# EAGLE library part S16B-PUDSS-1 (library con-jst-pud)
JST connector, PUD series, 2.0mm spacing, crimp style, wire-to-board, 16 pin, side entry
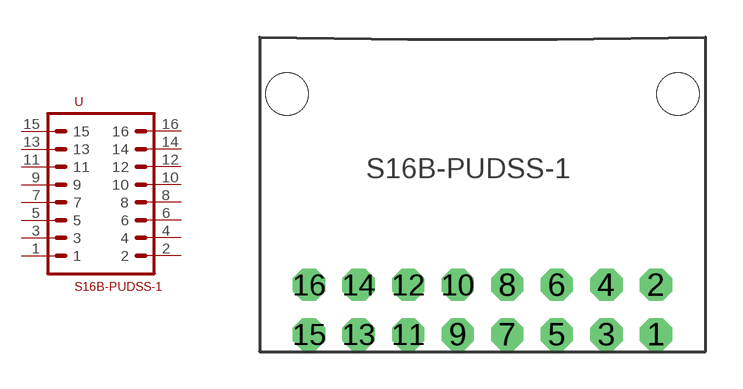
[diagram p6: symbol with the pads of PUD_16_PIN_SIDE_ENTRY; footprint PUD_16_PIN_SIDE_ENTRY]

Designator prefix -

## S16B-PUDSS-1 (DIGIKEY: 455-2489-ND; MF: JST; MPN: S16B-PUDSS-1)  [PUD_16_PIN_SIDE_ENTRY]
1  1
2  2
3  3
4  4
5  5
6  6
7  7
8  8
9  9
10  10
11  11
12  12
13  13
14  14
15  15
16  16

## Footprint PUD_16_PIN_SIDE_ENTRY (pad centres in mm)
drill 0.8 octagon: 1 7,-6; 2 7,-4; 3 5,-6; 4 5,-4; 5 3,-6; 6 3,-4; 7 1,-6; 8 1,-4; 9 -1,-6; 10 -1,-4; 11 -3,-6; 12 -3,-4; 13 -5,-6; 14 -5,-4; 15 -7,-6; 16 -7,-4
hole 1.7 at 7.9,3.7
hole 1.7 at -7.9,3.7